# EAGLE library part AK7744 (library akm)
ADC + Audio DSP 24-Bit, 3 ch ADC /4ch DAC and Input Selector
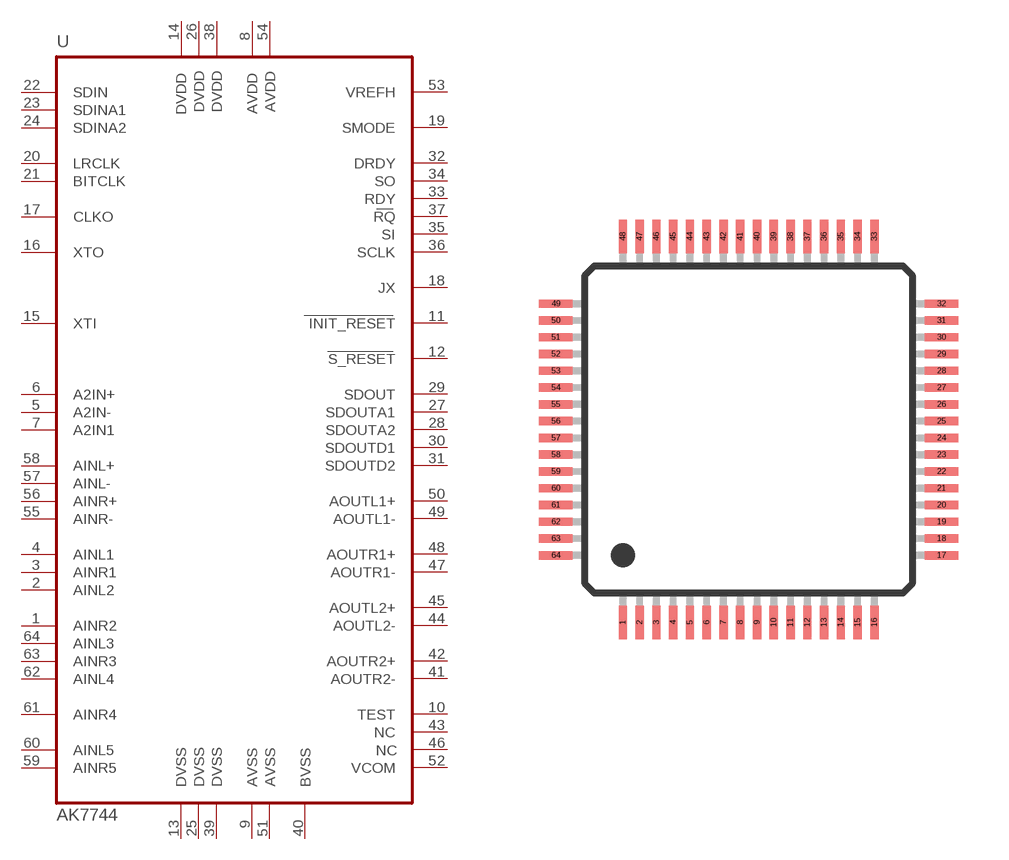
[diagram p14: symbol with the pads of LQFP64; footprint LQFP64]

Designator prefix U

## AK7744  [LQFP64]
1  AINR2  in
2  AINL2  in
3  AINR1  in
4  AINL1  in
5  A2IN-  in
6  A2IN+  in
7  A2IN1  in
8  AVDD  pwr
9  AVSS  pwr
10  TEST
11  INIT_RESET  in
12  S_RESET  in
13  DVSS  pwr
14  DVDD  pwr
15  XTI  in
16  XTO  out
17  CLKO  out
18  JX  in
19  SMODE
20  LRCLK  out
21  BITCLK
22  SDIN  in
23  SDINA1  in
24  SDINA2  in
25  DVSS1  pwr
26  DVDD1  pwr
27  SDOUTA1  out
28  SDOUTA2  out
29  SDOUT  out
30  SDOUTD1  out
31  SDOUTD2  out
32  DRDY  out
33  RDY  out
34  SO
35  SI  in
36  SCLK  in
37  RQ  in
38  DVDD2  pwr
39  DVSS2  pwr
40  BVSS  pwr
41  AOUTR2-  out
42  AOUTR2+  out
43  NC
44  AOUTL2-  out
45  AOUTL2+  out
46  NC1
47  AOUTR1-  out
48  AOUTR1+  out
49  AOUTL1-  out
50  AOUTL1+  out
51  AVSS1  pwr
52  VCOM  out
53  VREFH  in
54  AVDD2  pwr
55  AINR-  in
56  AINR+  in
57  AINL-  in
58  AINL+  in
59  AINR5  in
60  AINL5  in
61  AINR4  in
62  AINL4  in
63  AINR3  in
64  AINL3  in

## Footprint LQFP64 (pad centres in mm)
LQFP64
smd 0.25 x 1: 1 -3.75,-5.75; 2 -3.25,-5.75; 3 -2.75,-5.75; 4 -2.25,-5.75; 5 -1.75,-5.75; 6 -1.25,-5.75; 7 -0.75,-5.75; 8 -0.25,-5.75; 9 0.25,-5.75; 10 0.75,-5.75; 11 1.25,-5.75; 12 1.75,-5.75; 13 2.25,-5.75; 14 2.75,-5.75; 15 3.25,-5.75; 16 3.75,-5.75; 33 3.75,5.75; 34 3.25,5.75; 35 2.75,5.75; 36 2.25,5.75; 37 1.75,5.75; 38 1.25,5.75; 39 0.75,5.75; 40 0.25,5.75; 41 -0.25,5.75; 42 -0.75,5.75; 43 -1.25,5.75; 44 -1.75,5.75; 45 -2.25,5.75; 46 -2.75,5.75; 47 -3.25,5.75; 48 -3.75,5.75
smd 1 x 0.25: 17 5.75,-3.75; 18 5.75,-3.25; 19 5.75,-2.75; 20 5.75,-2.25; 21 5.75,-1.75; 22 5.75,-1.25; 23 5.75,-0.75; 24 5.75,-0.25; 25 5.75,0.25; 26 5.75,0.75; 27 5.75,1.25; 28 5.75,1.75; 29 5.75,2.25; 30 5.75,2.75; 31 5.75,3.25; 32 5.75,3.75; 49 -5.75,3.75; 50 -5.75,3.25; 51 -5.75,2.75; 52 -5.75,2.25; 53 -5.75,1.75; 54 -5.75,1.25; 55 -5.75,0.75; 56 -5.75,0.25; 57 -5.75,-0.25; 58 -5.75,-0.75; 59 -5.75,-1.25; 60 -5.75,-1.75; 61 -5.75,-2.25; 62 -5.75,-2.75; 63 -5.75,-3.25; 64 -5.75,-3.75